# EAGLE library part BQ25700A (library EXCISS)
BQ25700A NVDC SMBus Battery Buck-Boost Charge Controller with System Power Monitor & Processor Links Datasheet <http://www.ti.com/lit/gpn/bq25700a> Product website <http://www.ti.com/product/BQ25700A>
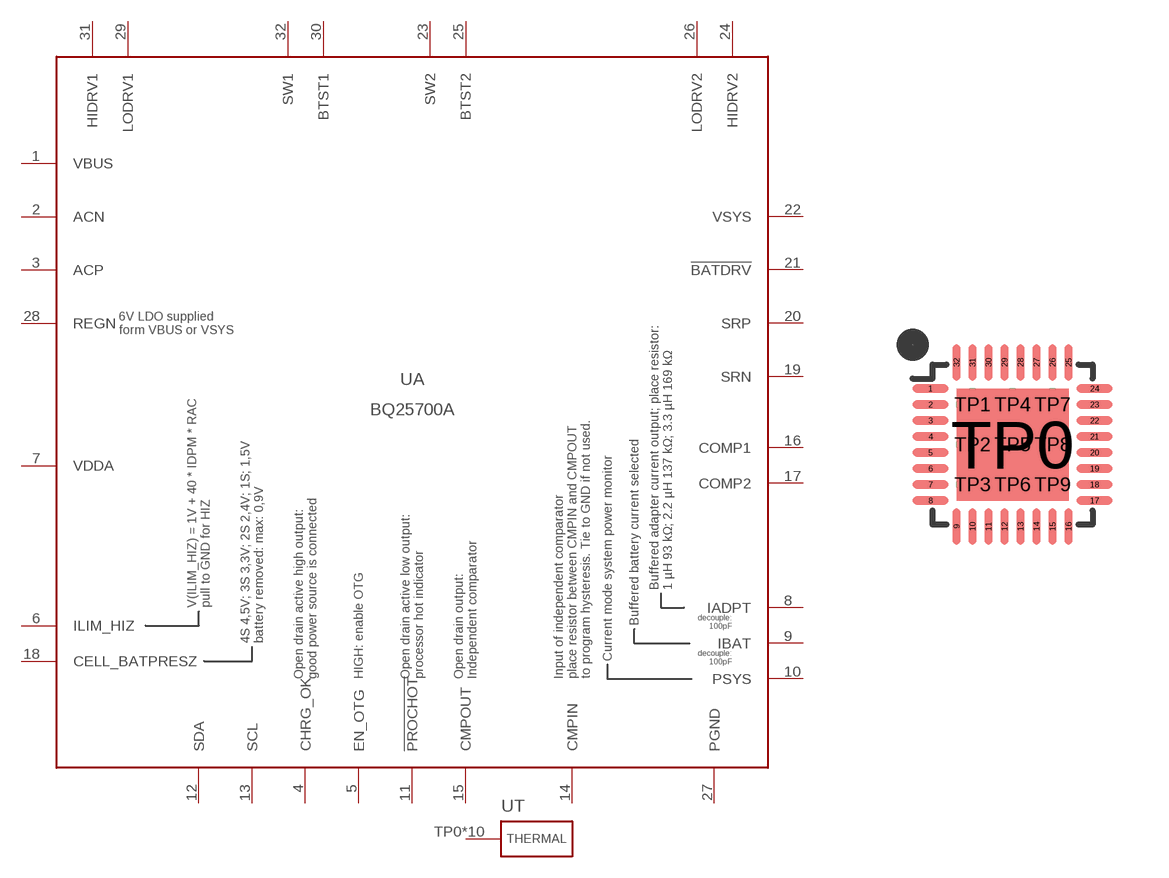
[diagram p20: symbol with the pads of RSN(S-PWQFN-N32); footprint RSN(S-PWQFN-N32)]

Designator prefix U; gates A=BQ25700A T=THERMAL

## BQ25700ARSN  [RSN(S-PWQFN-N32)]
1  A:VBUS  pwr
2  A:ACN  pwr
3  A:ACP  pwr
4  A:CHRG_OK  oc
5  A:EN_OTG  in
6  A:ILIM_HIZ  in
7  A:VDDA  pwr
8  A:IADPT  out
9  A:IBAT  out
10  A:PSYS  out
11  A:!PROCHOT  oc
12  A:SDA
13  A:SCL  in
14  A:CMPIN  in
15  A:CMPOUT  oc
16  A:COMP1  in
17  A:COMP2  in
18  A:CELL_BATPRESZ  in
19  A:SRN  pwr
20  A:SRP  pwr
21  A:!BATDRV  out
22  A:VSYS  pwr
23  A:SW2  pwr
24  A:HIDRV2  out
25  A:BTST2  pwr
26  A:LODRV2  out
27  A:PGND  pwr
28  A:REGN  pwr
29  A:LODRV1  out
30  A:BTST1  pwr
31  A:HIDRV1  out
32  A:SW1  pwr
TP0  T:GND  pwr
TP1  T:GND  pwr
TP2  T:GND  pwr
TP3  T:GND  pwr
TP4  T:GND  pwr
TP5  T:GND  pwr
TP6  T:GND  pwr
TP7  T:GND  pwr
TP8  T:GND  pwr
TP9  T:GND  pwr

## Footprint RSN(S-PWQFN-N32) (pad centres in mm)
smd 0.9 x 0.2: 1 -2.05,1.4; 2 -2.05,1; 3 -2.05,0.6; 4 -2.05,0.2; 5 -2.05,-0.2; 6 -2.05,-0.6; 7 -2.05,-1; 8 -2.05,-1.4; 17 2.05,-1.4; 18 2.05,-1; 19 2.05,-0.6; 20 2.05,-0.2; 21 2.05,0.2; 22 2.05,0.6; 23 2.05,1; 24 2.05,1.4
smd 0.2 x 0.9: 9 -1.4,-2.05; 10 -1,-2.05; 11 -0.6,-2.05; 12 -0.2,-2.05; 13 0.2,-2.05; 14 0.6,-2.05; 15 1,-2.05; 16 1.4,-2.05; 25 1.4,2.05; 26 1,2.05; 27 0.6,2.05; 28 0.2,2.05; 29 -0.2,2.05; 30 -0.6,2.05; 31 -1,2.05; 32 -1.4,2.05
smd 2.8 x 2.8: TP0 0,0
drill 0.3 pad 0.8: TP1 -1,1; TP2 -1,0; TP3 -1,-1; TP4 0,1; TP5 0,0; TP6 0,-1; TP7 1,1; TP8 1,0; TP9 1,-1